# Altium schematic symbol library PIC24FV16KM202-I&slash_SP.SchLib: 2 symbols
Pins are listed as number, name and electrical type; pins without a type are passive.

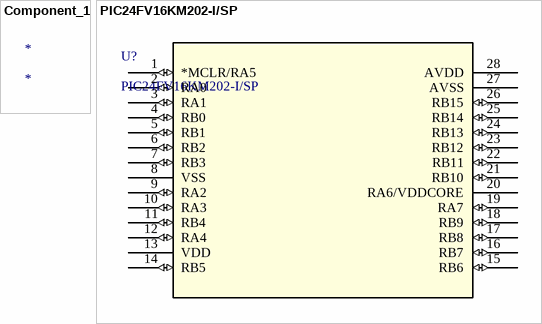
[diagram p0: symbols Component_1 to PIC24FV16KM202-I/SP]

## Component_1
designator *

## PIC24FV16KM202-I/SP
designator U?
No Description Available; Mfr_Name: Microchip; Copyright: Copyright (C) 2022 Ultra Librarian. All rights reserved.; Manufacturer_Part_Number: PIC24FV16KM202-I/SP; RefDes: RefDes; Type: DEV
footprint SPDIP28_300MC_MCH
pins: 1 *MCLR/RA5 (io), 2 RA0 (io), 3 RA1 (io), 4 RB0 (io), 5 RB1 (io), 6 RB2 (io), 7 RB3 (io), 8 VSS, 9 RA2 (io), 10 RA3 (io), 11 RB4 (io), 12 RA4 (io), 13 VDD (power), 14 RB5 (io), 15 RB6 (io), 16 RB7 (io), 17 RB8 (io), 18 RB9 (io), 19 RA7 (io), 20 RA6/VDDCORE (power), 21 RB10 (io), 22 RB11 (io), 23 RB12 (io), 24 RB13 (io), 25 RB14 (io), 26 RB15 (io), 27 AVSS, 28 AVDD (power)